# EAGLE library part RJHSE-538X-04 (library con-amphenol)
4 PORT RJ45 AMPHENOL
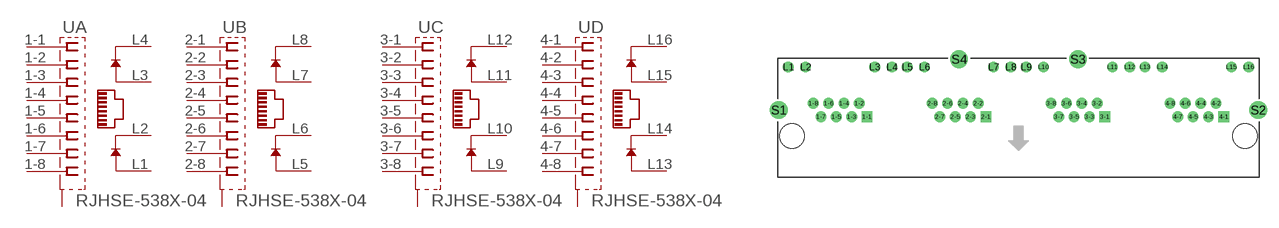
[diagram p11: symbol with the pads of RJHSE-538X-04; footprint RJHSE-538X-04]

Designator prefix -; gates A=RJHSE+LEDS B=RJHSE+LEDS C=RJHSE+LEDS D=RJHSE+LEDS

## RJHSE-538X-04  [RJHSE-538X-04]
1-1  A:1  pas
1-2  A:2  pas
1-3  A:3  pas
1-4  A:4  pas
1-5  A:5  pas
1-6  A:6  pas
1-7  A:7  pas
1-8  A:8  pas
2-1  B:1  pas
2-2  B:2  pas
2-3  B:3  pas
2-4  B:4  pas
2-5  B:5  pas
2-6  B:6  pas
2-7  B:7  pas
2-8  B:8  pas
3-1  C:1  pas
3-2  C:2  pas
3-3  C:3  pas
3-4  C:4  pas
3-5  C:5  pas
3-6  C:6  pas
3-7  C:7  pas
3-8  C:8  pas
4-1  D:1  pas
4-2  D:2  pas
4-3  D:3  pas
4-4  D:4  pas
4-5  D:5  pas
4-6  D:6  pas
4-7  D:7  pas
4-8  D:8  pas
L1  A:L1  pas
L2  A:L2  pas
L3  A:L3  pas
L4  A:L4  pas
L5  B:L1  pas
L6  B:L2  pas
L7  B:L3  pas
L8  B:L4  pas
L9  C:L1  pas
L10  C:L2  pas
L11  C:L3  pas
L12  C:L4  pas
L13  D:L1  pas
L14  D:L2  pas
L15  D:L3  pas
L16  D:L4  pas
S1  A:CASEGND0  pas
S2  D:CASEGND0  pas
S3  C:CASEGND0  pas
S4  B:CASEGND0  pas

## Footprint RJHSE-538X-04 (pad centres in mm)
4X1 MODULAR JACK 8 position, 8 pin, w/LED's
drill 0.914 square: 1-1 -20.066,2.54; 2-1 -4.318,2.54; 3-1 11.43,2.54; 4-1 27.178,2.54
drill 0.914: 1-2 -21.082,4.318; 1-3 -22.098,2.54; 1-4 -23.114,4.318; 1-5 -24.13,2.54; 1-6 -25.146,4.318; 1-7 -26.162,2.54; 1-8 -27.178,4.318; 2-2 -5.334,4.318; 2-3 -6.35,2.54; 2-4 -7.366,4.318; 2-5 -8.382,2.54; 2-6 -9.398,4.318; 2-7 -10.414,2.54; 2-8 -11.43,4.318; 3-2 10.414,4.318; 3-3 9.398,2.54; 3-4 8.382,4.318; 3-5 7.366,2.54; 3-6 6.35,4.318; 3-7 5.334,2.54; 3-8 4.318,4.318; 4-2 26.162,4.318; 4-3 25.146,2.54; 4-4 24.13,4.318; 4-5 23.114,2.54; 4-6 22.098,4.318; 4-7 21.082,2.54; 4-8 20.066,4.318; L1 -30.48,9.144; L2 -28.194,9.144; L3 -19.05,9.144; L4 -16.764,9.144; L5 -14.732,9.144; L6 -12.446,9.144; L7 -3.302,9.144; L8 -1.016,9.144; L9 1.016,9.144; L10 3.302,9.144; L11 12.446,9.144; L12 14.732,9.144; L13 16.764,9.144; L14 19.05,9.144; L15 28.194,9.144; L16 30.48,9.144
drill 1.575: S1 -31.75,3.429; S2 31.75,3.429; S3 7.874,10.16; S4 -7.874,10.16
hole 3.25 at -29.972,0
hole 3.25 at 29.972,0